# Altium footprint library PCB - BUTTONS - C&K KSC9.PcbLib: 1 footprints
Each footprint in its own frame and in the unit in brackets; x right, y up, seen from the top. Pads: shape width x height; smd on the part's side, far side on the other; paste and mask are expansions set on the pad; w line width, h text height; cw(c..) or ccw(c..) is an arc to the next point about the centre after c.
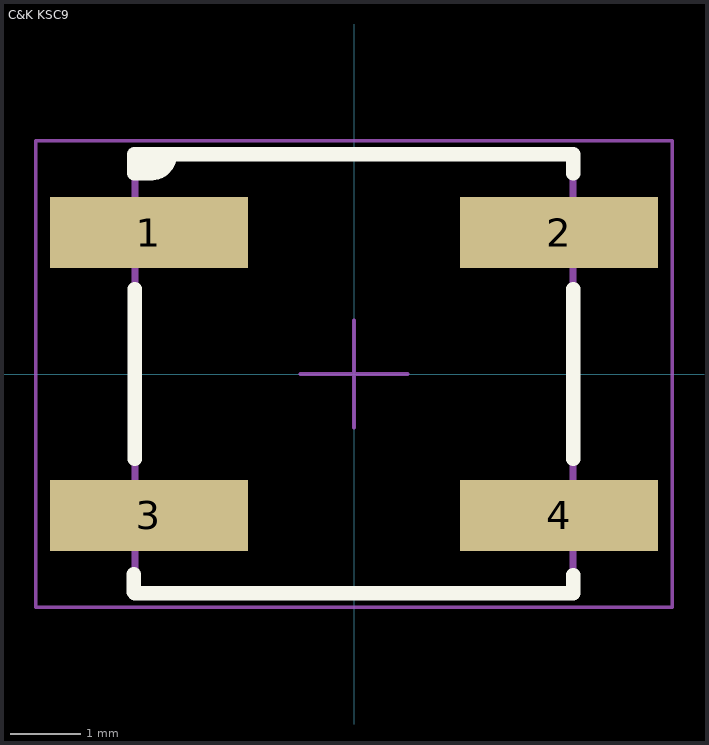
[diagram p0: the footprint, top view; thin cyan lines are the x and y axes]

## C&K KSC9 [mm] "C&K KSC9, 4 Pins, 6.2x6.2x7.7mm, 4.0mm Pitch"
height 7.7
pads (4):
  rect 2.8x1 smd: 1(-2.9,2) 2(2.9,2) 3(-2.9,-2) 4(2.9,-2)
Top Overlay:
  region: -3.108,3.108 -3.1,3.1 -2.605,3.1 -2.865,2.84 -3.108,2.84
  lines w0.2: -3.115,-2.832 -3.115,-3.085 -3.1,-3.1 3.1,-3.1 3.1,-2.845 ; -3.1,-1.2 -3.1,1.2 ; -2.605,3.1 cw(c-2.865,3.1) -2.865,2.84 -3.108,2.84 -3.108,3.108 3.1,3.108 3.1,2.835 ; 3.1,-1.2 3.1,1.2
Mechanical 13:
  lines w0.1: -3.1,3.1 -3.1,-3.1 3.1,-3.1 3.1,3.1 ; -3.099,3.095 3.101,3.095
Mechanical 15 (Mech15):
  lines w0.05: -0.762,0 0.762,0 ; 0,-0.762 0,0.762 ; -4.5,-3.3 4.5,-3.3 4.5,3.3 -4.5,3.3 -4.5,-3.3
3D body "C&K - KSC9.step": height 7.9, standoff 0.2, extent -3.4,-3.15 3.4,3.15